# Altium footprint library Dual-In-Line Package.PcbLib: 149 footprints (part 5 of 10)
Each footprint in its own frame and in the unit in brackets; x right, y up, seen from the top. Pads: shape width x height; smd on the part's side, far side on the other; paste and mask are expansions set on the pad; w line width, h text height; cw(c..) or ccw(c..) is an arc to the next point about the centre after c.
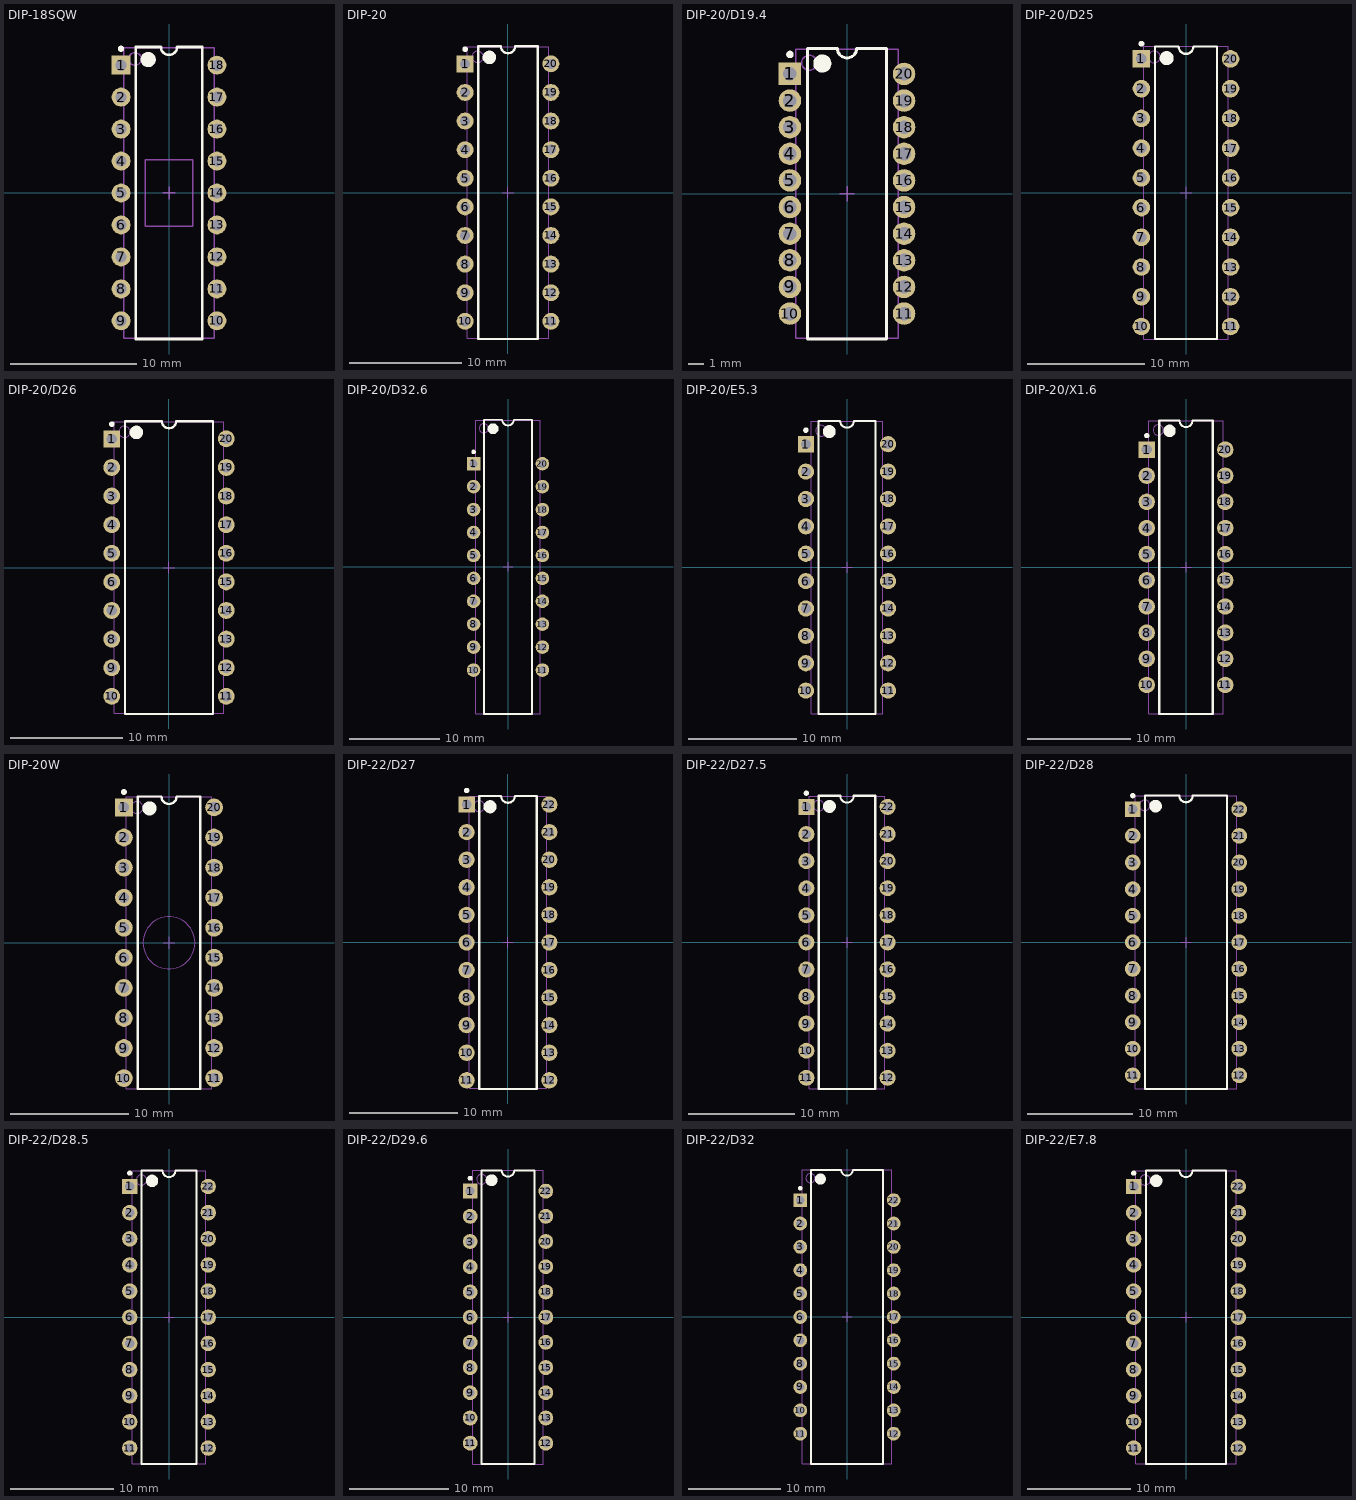
[diagram p4: the footprints below, top view; thin cyan lines are the x and y axes]

## DIP-18SQW [mm] "DIP, 18-Leads, Row Spacing 7.62mm, Pitch 2.54mm, Body 22.8x7.3mm, Window"
height 5.08
pads (18):
  rect 1.5x1.5 hole 0.9: 1(-3.81,10.16)
  round 1.5 hole 0.9: 2(-3.81,7.62) 3(-3.81,5.08) 4(-3.81,2.54) 5(-3.81,0) 6(-3.81,-2.54) 7(-3.81,-5.08) 8(-3.81,-7.62) 9(-3.81,-10.16) 10(3.81,-10.16) 11(3.81,-7.62) 12(3.81,-5.08) 13(3.81,-2.54) 14(3.81,0) 15(3.81,2.54) 16(3.81,5.08) 17(3.81,7.62) 18(3.81,10.16)
Top Overlay:
  circle w0.25: c-3.81,11.46 r0.125
  circle w0.6: c-1.65,10.6 r0.3
  lines w0.2: -2.65,-11.6 -2.65,11.6 -0.635,11.6 ccw(c0,11.6) 0.635,11.6 2.65,11.6 2.65,-11.6 -2.65,-11.6
Mechanical 13:
  circle w0.1: c-2.7,10.65 r0.5
  lines w0.1: -3.6,-11.55 -3.6,11.55 3.6,11.55 3.6,-11.55 -3.6,-11.55 ; -1.9,-2.65 -1.9,2.65 1.9,2.65 1.9,-2.65 -1.9,-2.65
Mechanical 15:
  lines w0.1: -0.5,0 0.5,0 ; 0,-0.5 0,0.5

## DIP-20 [mm] "DIP, 20-Pin, Row Spacing 7.62 mm, Pitch 2.54 mm"
height 5.08
pads (20):
  rect 1.5x1.5 hole 0.9: 1(-3.81,11.43)
  round 1.5 hole 0.9: 2(-3.81,8.89) 3(-3.81,6.35) 4(-3.81,3.81) 5(-3.81,1.27) 6(-3.81,-1.27) 7(-3.81,-3.81) 8(-3.81,-6.35) 9(-3.81,-8.89) 10(-3.81,-11.43) 11(3.81,-11.43) 12(3.81,-8.89) 13(3.81,-6.35) 14(3.81,-3.81) 15(3.81,-1.27) 16(3.81,1.27) 17(3.81,3.81) 18(3.81,6.35) 19(3.81,8.89) 20(3.81,11.43)
Top Overlay:
  circle w0.25: c-3.81,12.73 r0.125
  circle w0.6: c-1.65,12 r0.3
  lines w0.2: -2.65,-13 -2.65,13 -0.635,13 ccw(c0,13) 0.635,13 2.65,13 2.65,-13 -2.65,-13
Mechanical 13:
  circle w0.1: c-2.7,12.05 r0.5
  lines w0.1: -3.6,-12.95 -3.6,12.95 3.6,12.95 3.6,-12.95 -3.6,-12.95
Mechanical 15:
  lines w0.1: -0.5,0 0.5,0 ; 0,-0.5 0,0.5
3D body: height 4.57, standoff -3.81, extent -3.91,-13.24 3.91,13.3

## DIP-20/D19.4 [mm] "DIP, Plastic Shrink, 20-Pin, Row Spacing 7.62 mm, Pitch 1.778 mm"
height 5.08
pads (20):
  rect 1.5x1.5 hole 0.9: 1(-3.81,8.001)
  round 1.5 hole 0.9: 2(-3.81,6.223) 3(-3.81,4.445) 4(-3.81,2.667) 5(-3.81,0.889) 6(-3.81,-0.889) 7(-3.81,-2.667) 8(-3.81,-4.445) 9(-3.81,-6.223) 10(-3.81,-8.001) 11(3.81,-8.001) 12(3.81,-6.223) 13(3.81,-4.445) 14(3.81,-2.667) 15(3.81,-0.889) 16(3.81,0.889) 17(3.81,2.667) 18(3.81,4.445) 19(3.81,6.223) 20(3.81,8.001)
Top Overlay:
  circle w0.6: c-1.65,8.7 r0.3
  circle w0.25: c-3.81,9.301 r0.125
  lines w0.2: -2.65,-9.7 2.65,-9.7 2.65,9.7 0.635,9.7 cw(c0,9.7) -0.635,9.7 -2.65,9.7 -2.65,-9.7
Mechanical 13:
  circle w0.1: c-2.525,8.75 r0.5
  lines w0.1: -3.425,-9.65 3.425,-9.65 3.425,9.65 -3.425,9.65 -3.425,-9.65
Mechanical 15:
  lines w0.1: -0.5,0 0.5,0 ; 0,-0.5 0,0.5

## DIP-20/D25 [mm] "20-Pin Ceramic Dual In-Line Package (CerDIP)"
height 5.08
pads (20):
  rect 1.5x1.5 hole 0.9: 1(-3.81,11.43)
  round 1.5 hole 0.9: 2(-3.81,8.89) 3(-3.81,6.35) 4(-3.81,3.81) 5(-3.81,1.27) 6(-3.81,-1.27) 7(-3.81,-3.81) 8(-3.81,-6.35) 9(-3.81,-8.89) 10(-3.81,-11.43) 11(3.81,-11.43) 12(3.81,-8.89) 13(3.81,-6.35) 14(3.81,-3.81) 15(3.81,-1.27) 16(3.81,1.27) 17(3.81,3.81) 18(3.81,6.35) 19(3.81,8.89) 20(3.81,11.43)
Top Overlay:
  circle w0.25: c-3.81,12.73 r0.125
  circle w0.6: c-1.65,11.5 r0.3
  lines w0.2: -2.65,-12.5 -2.65,12.5 -0.635,12.5 ccw(c0,12.5) 0.635,12.5 2.65,12.5 2.65,-12.5 -2.65,-12.5
Mechanical 13:
  circle w0.1: c-2.7,11.6 r0.5
  lines w0.1: -3.6,-12.5 -3.6,12.5 3.6,12.5 3.6,-12.5 -3.6,-12.5
Mechanical 15:
  lines w0.1: -0.5,0 0.5,0 ; 0,-0.5 0,0.5

## DIP-20/D26 [mm] "DIP, Ceramic, 20-Pin, Row Spacing 10.16 mm, Pitch 2.54 mm"
height 5.08
pads (20):
  rect 1.5x1.5 hole 0.9: 1(-5.08,11.43)
  round 1.5 hole 0.9: 2(-5.08,8.89) 3(-5.08,6.35) 4(-5.08,3.81) 5(-5.08,1.27) 6(-5.08,-1.27) 7(-5.08,-3.81) 8(-5.08,-6.35) 9(-5.08,-8.89) 10(-5.08,-11.43) 11(5.08,-11.43) 12(5.08,-8.89) 13(5.08,-6.35) 14(5.08,-3.81) 15(5.08,-1.27) 16(5.08,1.27) 17(5.08,3.81) 18(5.08,6.35) 19(5.08,8.89) 20(5.08,11.43)
Top Overlay:
  circle w0.25: c-5.08,12.73 r0.125
  circle w0.6: c-2.9,12 r0.3
  lines w0.2: -3.9,-13 -3.9,13 -0.635,13 ccw(c0,13) 0.635,13 3.9,13 3.9,-13 -3.9,-13
Mechanical 13:
  circle w0.1: c-3.95,12.05 r0.5
  lines w0.1: -4.85,-12.95 -4.85,12.95 4.85,12.95 4.85,-12.95 -4.85,-12.95
Mechanical 15:
  lines w0.1: -0.5,0 0.5,0 ; 0,-0.5 0,0.5

## DIP-20/D32.6 [mm] "DIP, 20-Pin, Row Spacing 7.62 mm, Pitch 2.54 mm"
height 5.08
pads (20):
  rect 1.5x1.5 hole 0.9: 1(-3.81,11.43)
  round 1.5 hole 0.9: 2(-3.81,8.89) 3(-3.81,6.35) 4(-3.81,3.81) 5(-3.81,1.27) 6(-3.81,-1.27) 7(-3.81,-3.81) 8(-3.81,-6.35) 9(-3.81,-8.89) 10(-3.81,-11.43) 11(3.81,-11.43) 12(3.81,-8.89) 13(3.81,-6.35) 14(3.81,-3.81) 15(3.81,-1.27) 16(3.81,1.27) 17(3.81,3.81) 18(3.81,6.35) 19(3.81,8.89) 20(3.81,11.43)
Top Overlay:
  circle w0.6: c-1.65,15.3 r0.3
  circle w0.25: c-3.81,12.73 r0.125
  lines w0.2: -2.65,-16.3 2.65,-16.3 2.65,16.3 0.635,16.3 cw(c0,16.3) -0.635,16.3 -2.65,16.3 -2.65,-16.3
Mechanical 13:
  circle w0.1: c-2.7,15.35 r0.5
  lines w0.1: -3.6,-16.25 3.6,-16.25 3.6,16.25 -3.6,16.25 -3.6,-16.25
Mechanical 15:
  lines w0.1: -0.5,0 0.5,0 ; 0,-0.5 0,0.5

## DIP-20/E5.3 [mm] "DIP, 20-Pin, Row Spacing 7.62 mm, Pitch 2.54 mm"
height 5.33
pads (20):
  rect 1.5x1.5 hole 0.9: 1(-3.81,11.43)
  round 1.5 hole 0.9: 2(-3.81,8.89) 3(-3.81,6.35) 4(-3.81,3.81) 5(-3.81,1.27) 6(-3.81,-1.27) 7(-3.81,-3.81) 8(-3.81,-6.35) 9(-3.81,-8.89) 10(-3.81,-11.43) 11(3.81,-11.43) 12(3.81,-8.89) 13(3.81,-6.35) 14(3.81,-3.81) 15(3.81,-1.27) 16(3.81,1.27) 17(3.81,3.81) 18(3.81,6.35) 19(3.81,8.89) 20(3.81,11.43)
Top Overlay:
  circle w0.25: c-3.81,12.73 r0.125
  circle w0.6: c-1.65,12.6 r0.3
  lines w0.2: -2.65,-13.6 -2.65,13.6 -0.635,13.6 ccw(c0,13.6) 0.635,13.6 2.65,13.6 2.65,-13.6 -2.65,-13.6
Mechanical 13:
  circle w0.1: c-2.4,12.675 r0.5
  lines w0.1: -3.3,-13.575 -3.3,13.575 3.3,13.575 3.3,-13.575 -3.3,-13.575
Mechanical 15:
  lines w0.1: -0.5,0 0.5,0 ; 0,-0.5 0,0.5

## DIP-20/X1.6 [mm] "DIP, 20-Pin, Row Spacing 7.62 mm, Pitch 2.54 mm"
height 5.08
pads (20):
  rect 1.6x1.6 hole 1: 1(-3.81,11.43)
  round 1.6 hole 1: 2(-3.81,8.89) 3(-3.81,6.35) 4(-3.81,3.81) 5(-3.81,1.27) 6(-3.81,-1.27) 7(-3.81,-3.81) 8(-3.81,-6.35) 9(-3.81,-8.89) 10(-3.81,-11.43) 11(3.81,-11.43) 12(3.81,-8.89) 13(3.81,-6.35) 14(3.81,-3.81) 15(3.81,-1.27) 16(3.81,1.27) 17(3.81,3.81) 18(3.81,6.35) 19(3.81,8.89) 20(3.81,11.43)
Top Overlay:
  circle w0.6: c-1.6,13.25 r0.3
  circle w0.25: c-3.81,12.78 r0.125
  lines w0.2: -2.6,-14.25 2.6,-14.25 2.6,14.25 0.635,14.25 cw(c0,14.25) -0.635,14.25 -2.6,14.25 -2.6,-14.25
Mechanical 13:
  circle w0.1: c-2.7,13.325 r0.5
  lines w0.1: -3.6,-14.225 3.6,-14.225 3.6,14.225 -3.6,14.225 -3.6,-14.225
Mechanical 15:
  lines w0.1: -0.5,0 0.5,0 ; 0,-0.5 0,0.5

## DIP-20W [mm] "DIP, 20-Leads, Row Spacing 7.62mm, Pitch 2.54mm, Body 24.3x7.3mm, Window"
height 5.08
pads (20):
  rect 1.5x1.5 hole 0.9: 1(-3.81,11.43)
  round 1.5 hole 0.9: 2(-3.81,8.89) 3(-3.81,6.35) 4(-3.81,3.81) 5(-3.81,1.27) 6(-3.81,-1.27) 7(-3.81,-3.81) 8(-3.81,-6.35) 9(-3.81,-8.89) 10(-3.81,-11.43) 11(3.81,-11.43) 12(3.81,-8.89) 13(3.81,-6.35) 14(3.81,-3.81) 15(3.81,-1.27) 16(3.81,1.27) 17(3.81,3.81) 18(3.81,6.35) 19(3.81,8.89) 20(3.81,11.43)
Top Overlay:
  circle w0.6: c-1.65,11.35 r0.3
  circle w0.25: c-3.81,12.73 r0.125
  lines w0.2: -2.65,-12.35 2.65,-12.35 2.65,12.35 0.635,12.35 cw(c0,12.35) -0.635,12.35 -2.65,12.35 -2.65,-12.35
Mechanical 13:
  circle w0.1: c-2.7,11.425 r0.5
  circle w0.1: c0,0 r2.2
  lines w0.1: -3.6,-12.325 3.6,-12.325 3.6,12.325 -3.6,12.325 -3.6,-12.325
Mechanical 15:
  lines w0.1: -0.5,0 0.5,0 ; 0,-0.5 0,0.5

## DIP-22/D27 [mm] "DIP, Plastic, 22-Pin, Row Spacing 7.62 mm, Pitch 2.54 mm"
height 5.34
pads (22):
  rect 1.5x1.5 hole 0.9: 1(-3.81,12.7)
  round 1.5 hole 0.9: 2(-3.81,10.16) 3(-3.81,7.62) 4(-3.81,5.08) 5(-3.81,2.54) 6(-3.81,0) 7(-3.81,-2.54) 8(-3.81,-5.08) 9(-3.81,-7.62) 10(-3.81,-10.16) 11(-3.81,-12.7) 12(3.81,-12.7) 13(3.81,-10.16) 14(3.81,-7.62) 15(3.81,-5.08) 16(3.81,-2.54) 17(3.81,0) 18(3.81,2.54) 19(3.81,5.08) 20(3.81,7.62) 21(3.81,10.16) 22(3.81,12.7)
Top Overlay:
  circle w0.6: c-1.65,12.5 r0.3
  circle w0.25: c-3.81,14 r0.125
  lines w0.2: -2.65,-13.5 2.65,-13.5 2.65,13.5 0.635,13.5 cw(c0,13.5) -0.635,13.5 -2.65,13.5 -2.65,-13.5
Mechanical 13:
  circle w0.1: c-2.65,12.55 r0.5
  lines w0.1: -3.55,-13.45 3.55,-13.45 3.55,13.45 -3.55,13.45 -3.55,-13.45
Mechanical 15:
  lines w0.1: -0.5,0 0.5,0 ; 0,-0.5 0,0.5
3D body: height 5.09, standoff -2.48, extent -3.935,-14.9 3.935,14.76

## DIP-22/D27.5 [mm] "DIP, 22-Pin, Row Spacing 7.62 mm, Pitch 2.54 mm"
height 5.33
pads (22):
  rect 1.5x1.5 hole 0.9: 1(-3.81,12.7)
  round 1.5 hole 0.9: 2(-3.81,10.16) 3(-3.81,7.62) 4(-3.81,5.08) 5(-3.81,2.54) 6(-3.81,0) 7(-3.81,-2.54) 8(-3.81,-5.08) 9(-3.81,-7.62) 10(-3.81,-10.16) 11(-3.81,-12.7) 12(3.81,-12.7) 13(3.81,-10.16) 14(3.81,-7.62) 15(3.81,-5.08) 16(3.81,-2.54) 17(3.81,0) 18(3.81,2.54) 19(3.81,5.08) 20(3.81,7.62) 21(3.81,10.16) 22(3.81,12.7)
Top Overlay:
  circle w0.6: c-1.65,12.75 r0.3
  circle w0.25: c-3.81,14 r0.125
  lines w0.2: -2.65,-13.75 2.65,-13.75 2.65,13.75 0.635,13.75 cw(c0,13.75) -0.635,13.75 -2.65,13.75 -2.65,-13.75
Mechanical 13:
  circle w0.1: c-2.65,12.825 r0.5
  lines w0.1: -3.55,-13.725 3.55,-13.725 3.55,13.725 -3.55,13.725 -3.55,-13.725
Mechanical 15:
  lines w0.1: -0.5,0 0.5,0 ; 0,-0.5 0,0.5

## DIP-22/D28 [mm] "DIP, Ceramic, 22-Pin, Row Spacing 10.16 mm, Pitch 2.54 mm"
height 5.08
pads (22):
  rect 1.5x1.5 hole 0.9: 1(-5.08,12.7)
  round 1.5 hole 0.9: 2(-5.08,10.16) 3(-5.08,7.62) 4(-5.08,5.08) 5(-5.08,2.54) 6(-5.08,0) 7(-5.08,-2.54) 8(-5.08,-5.08) 9(-5.08,-7.62) 10(-5.08,-10.16) 11(-5.08,-12.7) 12(5.08,-12.7) 13(5.08,-10.16) 14(5.08,-7.62) 15(5.08,-5.08) 16(5.08,-2.54) 17(5.08,0) 18(5.08,2.54) 19(5.08,5.08) 20(5.08,7.62) 21(5.08,10.16) 22(5.08,12.7)
Top Overlay:
  circle w0.25: c-5.08,14 r0.125
  circle w0.6: c-2.9,13 r0.3
  lines w0.2: -3.9,-14 -3.9,14 -0.635,14 ccw(c0,14) 0.635,14 3.9,14 3.9,-14 -3.9,-14
Mechanical 13:
  circle w0.1: c-3.95,13.075 r0.5
  lines w0.1: -4.85,-13.975 -4.85,13.975 4.85,13.975 4.85,-13.975 -4.85,-13.975
Mechanical 15:
  lines w0.1: -0.5,0 0.5,0 ; 0,-0.5 0,0.5

## DIP-22/D28.5 [mm] "DIP, Ceramic, 22-Pin, Row Spacing 7.62 mm, Pitch 2.54 mm"
height 5.08
pads (22):
  rect 1.5x1.5 hole 0.9: 1(-3.81,12.7)
  round 1.5 hole 0.9: 2(-3.81,10.16) 3(-3.81,7.62) 4(-3.81,5.08) 5(-3.81,2.54) 6(-3.81,0) 7(-3.81,-2.54) 8(-3.81,-5.08) 9(-3.81,-7.62) 10(-3.81,-10.16) 11(-3.81,-12.7) 12(3.81,-12.7) 13(3.81,-10.16) 14(3.81,-7.62) 15(3.81,-5.08) 16(3.81,-2.54) 17(3.81,0) 18(3.81,2.54) 19(3.81,5.08) 20(3.81,7.62) 21(3.81,10.16) 22(3.81,12.7)
Top Overlay:
  circle w0.25: c-3.81,14 r0.125
  circle w0.6: c-1.65,13.25 r0.3
  lines w0.2: -2.65,-14.25 -2.65,14.25 -0.635,14.25 ccw(c0,14.25) 0.635,14.25 2.65,14.25 2.65,-14.25 -2.65,-14.25
Mechanical 13:
  circle w0.1: c-2.675,13.325 r0.5
  lines w0.1: -3.575,-14.225 -3.575,14.225 3.575,14.225 3.575,-14.225 -3.575,-14.225
Mechanical 15:
  lines w0.1: -0.5,0 0.5,0 ; 0,-0.5 0,0.5

## DIP-22/D29.6 [mm] "DIP, Plastic, 22-Pin, Row Spacing 7.62 mm, Pitch 2.54 mm"
height 5.34
pads (22):
  rect 1.5x1.5 hole 0.9: 1(-3.81,12.7)
  round 1.5 hole 0.9: 2(-3.81,10.16) 3(-3.81,7.62) 4(-3.81,5.08) 5(-3.81,2.54) 6(-3.81,0) 7(-3.81,-2.54) 8(-3.81,-5.08) 9(-3.81,-7.62) 10(-3.81,-10.16) 11(-3.81,-12.7) 12(3.81,-12.7) 13(3.81,-10.16) 14(3.81,-7.62) 15(3.81,-5.08) 16(3.81,-2.54) 17(3.81,0) 18(3.81,2.54) 19(3.81,5.08) 20(3.81,7.62) 21(3.81,10.16) 22(3.81,12.7)
Top Overlay:
  circle w0.25: c-3.81,14 r0.125
  circle w0.6: c-1.65,13.8 r0.3
  lines w0.2: -2.65,-14.8 -2.65,14.8 -0.635,14.8 ccw(c0,14.8) 0.635,14.8 2.65,14.8 2.65,-14.8 -2.65,-14.8
Mechanical 13:
  circle w0.1: c-2.65,13.9 r0.5
  lines w0.1: -3.55,-14.8 -3.55,14.8 3.55,14.8 3.55,-14.8 -3.55,-14.8
Mechanical 15:
  lines w0.1: -0.5,0 0.5,0 ; 0,-0.5 0,0.5

## DIP-22/D32 [mm] "DIP, 22-Pin, Row Spacing 10.16 mm, Pitch 2.54 mm"
height 5.71
pads (22):
  rect 1.5x1.5 hole 0.9: 1(-5.08,12.7)
  round 1.5 hole 0.9: 2(-5.08,10.16) 3(-5.08,7.62) 4(-5.08,5.08) 5(-5.08,2.54) 6(-5.08,0) 7(-5.08,-2.54) 8(-5.08,-5.08) 9(-5.08,-7.62) 10(-5.08,-10.16) 11(-5.08,-12.7) 12(5.08,-12.7) 13(5.08,-10.16) 14(5.08,-7.62) 15(5.08,-5.08) 16(5.08,-2.54) 17(5.08,0) 18(5.08,2.54) 19(5.08,5.08) 20(5.08,7.62) 21(5.08,10.16) 22(5.08,12.7)
Top Overlay:
  circle w0.25: c-5.08,14 r0.125
  circle w0.6: c-2.9,15 r0.3
  lines w0.2: -3.9,-16 -3.9,16 -0.635,16 ccw(c0,16) 0.635,16 3.9,16 3.9,-16 -3.9,-16
Mechanical 13:
  circle w0.1: c-3.975,15.1 r0.5
  lines w0.1: -4.875,-16 -4.875,16 4.875,16 4.875,-16 -4.875,-16
Mechanical 15:
  lines w0.1: -0.5,0 0.5,0 ; 0,-0.5 0,0.5

## DIP-22/E7.8 [mm] "DIP, 22-Pin, Row Spacing 10.16 mm, Pitch 2.54 mm"
height 5.33
pads (22):
  rect 1.5x1.5 hole 0.9: 1(-5.08,12.7)
  round 1.5 hole 0.9: 2(-5.08,10.16) 3(-5.08,7.62) 4(-5.08,5.08) 5(-5.08,2.54) 6(-5.08,0) 7(-5.08,-2.54) 8(-5.08,-5.08) 9(-5.08,-7.62) 10(-5.08,-10.16) 11(-5.08,-12.7) 12(5.08,-12.7) 13(5.08,-10.16) 14(5.08,-7.62) 15(5.08,-5.08) 16(5.08,-2.54) 17(5.08,0) 18(5.08,2.54) 19(5.08,5.08) 20(5.08,7.62) 21(5.08,10.16) 22(5.08,12.7)
Top Overlay:
  circle w0.25: c-5.08,14 r0.125
  circle w0.6: c-2.9,13.25 r0.3
  lines w0.2: -3.9,-14.25 -3.9,14.25 -0.635,14.25 ccw(c0,14.25) 0.635,14.25 3.9,14.25 3.9,-14.25 -3.9,-14.25
Mechanical 13:
  circle w0.1: c-3.975,13.325 r0.5
  lines w0.1: -4.875,-14.225 -4.875,14.225 4.875,14.225 4.875,-14.225 -4.875,-14.225
Mechanical 15:
  lines w0.1: -0.5,0 0.5,0 ; 0,-0.5 0,0.5